# EAGLE library part ATSAMD11C14 (library .custom-active)
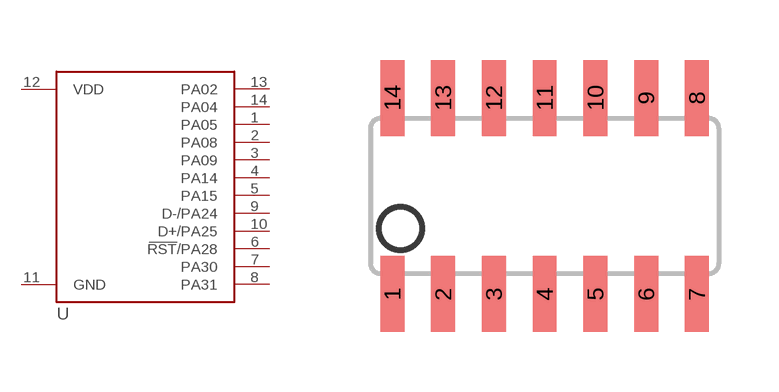
[diagram p4: symbol with the pads of SOIC-14; footprint SOIC-14]

Designator prefix U

## ATSAMD11C14  [SOIC-14]
1  PA05
2  PA08
3  PA09
4  PA14
5  PA15
6  RST/PA28
7  PA30
8  PA31
9  D-/PA24
10  D+/PA25
11  GND  pwr
12  VDD  pwr
13  PA02
14  PA04

## Footprint SOIC-14 (pad centres in mm)
14-SOIC, 1.27 mm pitch, 6.00 mm span, 8.65 X 3.90 X 1.44 mm body 14-pin SOIC package with 1.27 mm pitch, 6.00 mm span with body size 8.65 X 3.90 X 1.44 mm
smd 0.599 x 1.901: 1 -3.81,-2.455; 2 -2.54,-2.455; 3 -1.27,-2.455; 4 0,-2.455; 5 1.27,-2.455; 6 2.54,-2.455; 7 3.81,-2.455; 8 3.81,2.455; 9 2.54,2.455; 10 1.27,2.455; 11 0,2.455; 12 -1.27,2.455; 13 -2.54,2.455; 14 -3.81,2.455